# EAGLE library part LTC4065 (library linear-technology)
Li ion battery charger 750 mA max
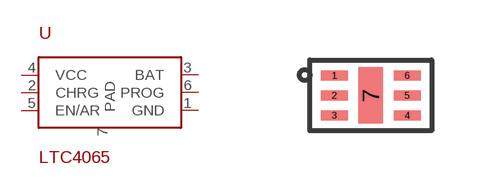
[diagram p26: symbol with the pads of DFN6-2X2; footprint DFN6-2X2]

Designator prefix -

## LTC4065  [DFN6-2X2]
1  GND
2  CHRG
3  BAT
4  VCC
5  EN/AR
6  PROG
7  PAD

## Footprint DFN6-2X2 (pad centres in mm)
smd 0.675 x 0.25: 1 -0.912,0.5; 2 -0.912,0; 3 -0.912,-0.5; 4 0.912,-0.5; 5 0.912,0; 6 0.912,0.5
smd 0.61 x 1.42: 7 0,0